# Altium footprint library LAY_90818_C172.PcbLib: 60 footprints (part 4 of 5)
Each footprint in its own frame and in the unit in brackets; x right, y up, seen from the top. Pads: shape width x height; smd on the part's side, far side on the other; paste and mask are expansions set on the pad; w line width, h text height; cw(c..) or ccw(c..) is an arc to the next point about the centre after c.
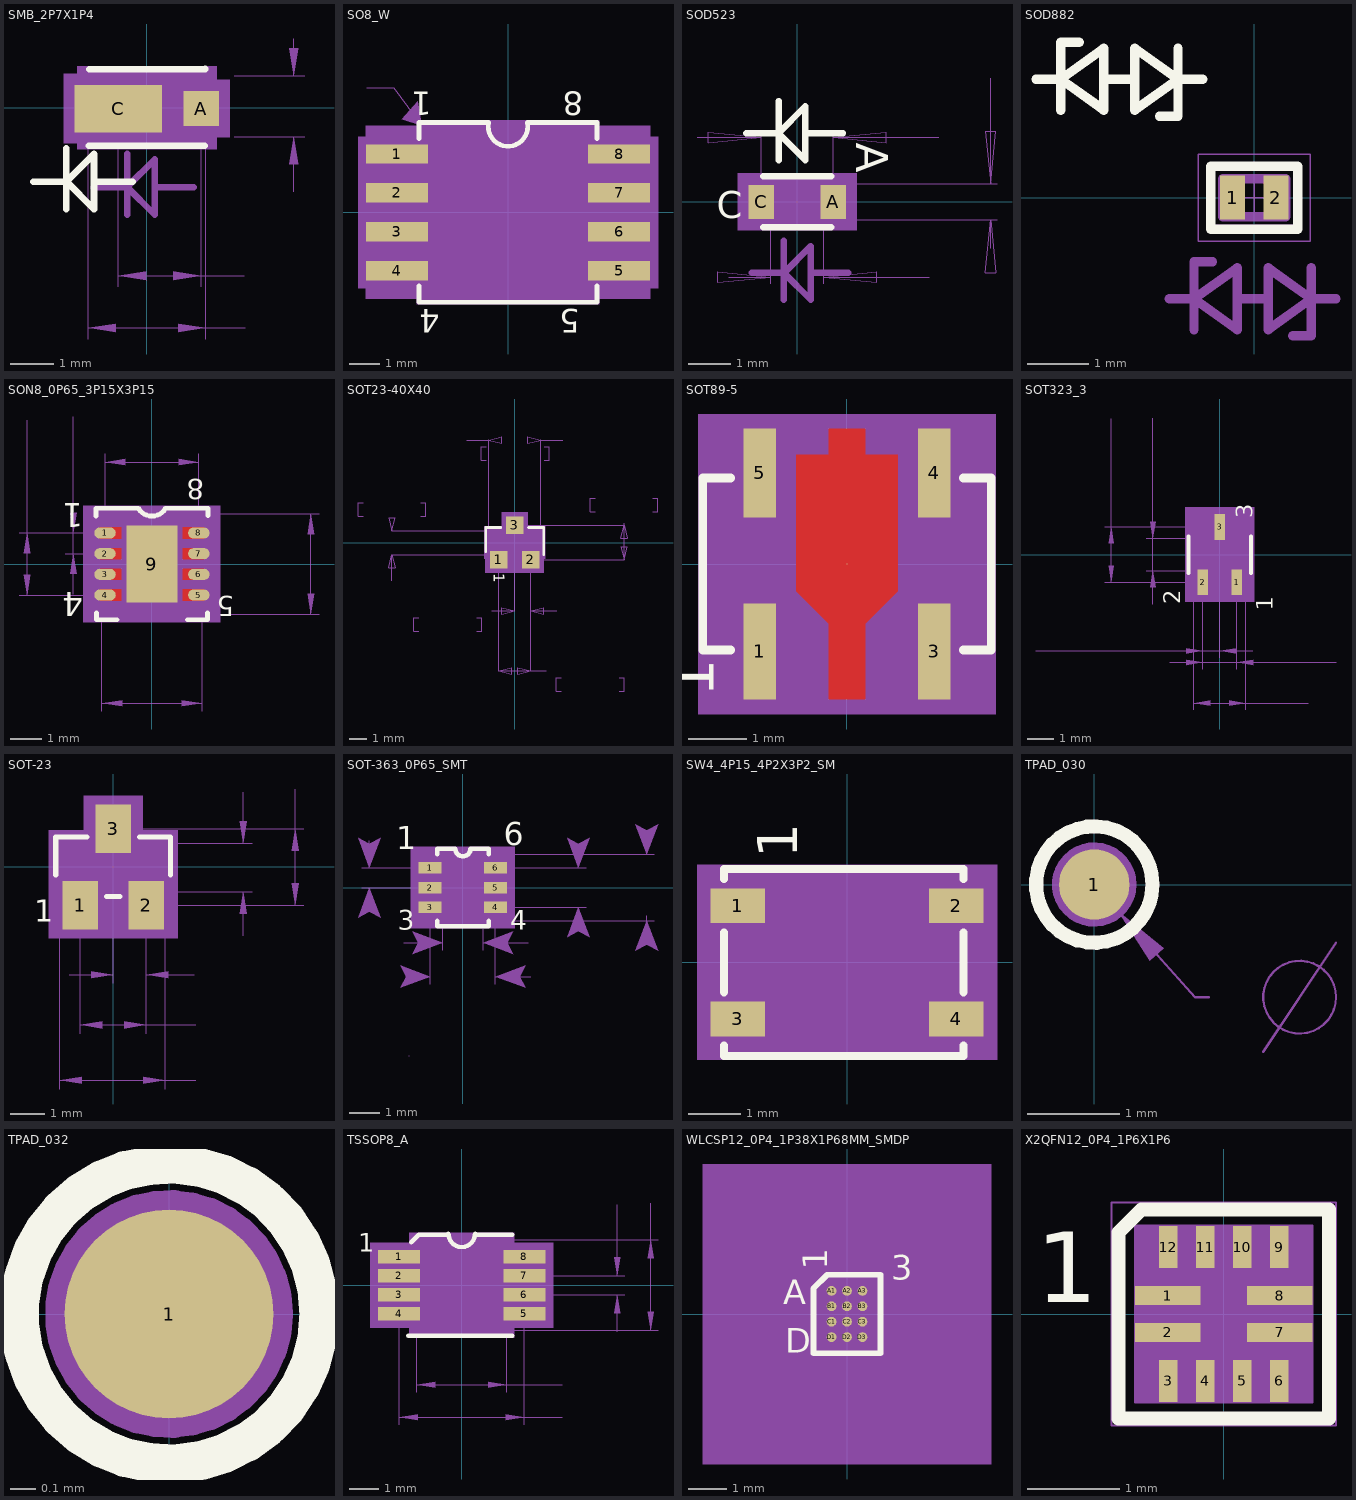
[diagram p3: the footprints below, top view; thin cyan lines are the x and y axes]

## SMB_2P7X1P4 [mil] "SMB_2P7X1P4"
pads (2):
  rect 32x32 smd: A(49.15,-0.59)
  rect 79x43 smd: C(-25.65,-0.59)
Top Overlay:
  lines w6: -102.73,-66.68 -72.73,-66.68 ; -72.73,-91.68 -72.73,-36.68 ; -52.19,-34.41 52.62,-34.41 52.62,-34.17 ; -51.75,35.04 53.05,35.04 53.05,35.28 ; -47.73,-66.68 -12.73,-66.68 ; -72.73,-66.68 -47.73,-91.68 -47.73,-41.68 -72.73,-66.68
  text ".Designator" at 59.94,74.41 h30
Top Courtyard:
  dashed: -65.18,-22.16 -52.85,-22.16 -52.85,-27.56 53.45,-27.56 53.45,-16.61 65.18,-16.61 65.18,15.43 53.45,15.43 53.45,27.56 -52.85,27.56 -52.85,20.98 -65.18,20.98
Top 3D Body:
  region: -65.18,-22.16 -52.85,-22.16 -52.85,-27.56 53.45,-27.56 53.45,-16.61 65.18,-16.61 65.18,15.43 53.45,15.43 53.45,27.56 -52.85,27.56 -52.85,20.98 -65.18,20.98
Top Component Center:
  lines w1: -10.06,-0.59 9.94,-0.59 ; -0.06,-10.59 -0.06,9.41
Mechanical 31:
  dashed: -75.18,30.98 -62.85,30.98 -62.85,37.56 63.45,37.56 63.45,25.43 75.18,25.43 75.18,-26.61 63.45,-26.61 63.45,-37.56 -62.85,-37.56 -62.85,-32.16 -75.18,-32.16
Mechanical34:
  text "A" at 53.15,-0.59 h10
  text "C" at -21.65,-0.59 h10
Mechanical35:
  dashed: 24.15,-155.85 49.15,-151.85 24.15,-147.85
  dashed: -0.65,-147.85 -25.65,-151.85 -0.65,-155.85
  dashed: 128.98,54.06 132.97,29.06 136.97,54.06
  dashed: 136.97,-51.06 132.97,-26.06 128.98,-51.06
  dashed: 28.45,-203.05 53.45,-199.06 28.45,-195.06
  dashed: -27.85,-195.06 -52.85,-199.06 -27.85,-203.05
  lines w1: -52.85,-209.06 -52.85,-37.56 ; -52.85,-199.06 53.45,-199.06 89.1,-199.06 ; -25.65,-161.85 -25.65,-10.59 ; -25.65,-151.85 49.15,-151.85 88,-151.85 ; 49.15,-161.85 49.15,-10.59 ; 53.45,-209.06 53.45,-37.56 ; 79.03,-26.06 142.97,-26.06 ; 79.03,29.06 142.97,29.06 ; 132.97,-76.06 132.97,-26.06 ; 132.97,29.06 132.97,62.31
  text "ALL DIMS IN MM" at -147.16,-255.79 h25
  text "R079X043S" at 24.84,-298.09 h25
  text "S032S" at 23.54,-336.99 h25
  text "PAD C" at -149.16,-294.69 h25
  text "PAD A" at -149.16,-334.49 h25
  text "SMB_2P7X1P4" at -158.46,105.31 h25
  text "1.9" at 114.24,-167.39 h25
  text "1.4" at 179.44,-41.19 h25
  text "2.7" at 115.34,-214.59 h25
Top Assembly:
  lines w6: -47.73,-71.68 -17.73,-71.68 ; -17.73,-96.68 -17.73,-41.68 ; 7.27,-71.68 42.27,-71.68 ; -17.73,-71.68 7.27,-96.68 7.27,-46.68 -17.73,-71.68 ; -52.85,-27.56 53.45,-27.56 53.45,27.56 -52.85,27.56 -52.85,-27.56
3D body: height 150, standoff 0, extent -65.18,-27.56 65.18,27.56

## SO8_W [mil] "SO8_W"
pads (8):
  rect 80x25 smd: 1(-143,75) 2(-143,25) 3(-143,-25) 4(-143,-75) 5(143,-75) 6(143,-25) 7(143,25) 8(143,75)
Top Overlay:
  lines w6: -114.5,-94.5 -114.5,-115.5 114.5,-115.5 114.5,-94.5 ; -114.5,94.5 -114.5,115.5 -25,115.5 ; -25,115 ccw(c0,110.42) 25,115 ; 25,115.5 114.5,115.5 114.5,94.5
  text ".Designator" at 34,155 h30
  text "1" at -98,155 h30
  text "4" at -88,-125 h30
  text "8" at 97,155 h30
  text "5" at 92,-125 h30
Top Courtyard:
  dashed: -183,-111.5 183,-111.5 183,111.5 -183,111.5
Top 3D Body:
  region: -183,-111.5 183,-111.5 183,111.5 -183,111.5
Top Component Center:
  lines w1: -10,0 10,0 ; 0,-10 0,10
Mechanical 31:
  dashed: -117.5,-118.5 -117.5,-97.5 -193,-97.5 -193,97.5 -117.5,97.5 -117.5,118.5 117.5,118.5 117.5,97.5 193,97.5 193,-97.5 117.5,-97.5 117.5,-118.5
Mechanical34:
  text "8" at 147,75 h10
  text "1" at -139,75 h10
  text "6" at 147,-25 h10
  text "7" at 147,25 h10
  text "3" at -139,-25 h10
  text "2" at -139,25 h10
  text "5" at 147,-75 h10
  text "4" at -139,-75 h10
Mechanical35:
  text "PADS R080X025S" at -192,-471.34 h25
  text "SO8_W" at -59,223.5 h25
  text "ALL DIMS IN MM" at -194,-331.34 h25
  text "(DIMS. FOR REF. ONLY)" at -257.5,-399.84 h25
  text "(ALL PADS ROUNDED TO MILS)" at -288,-529.84 h25
Top Assembly:
  lines w6: -107.5,-108 ccw(c-107,-108) -107,-108.5 107,-108.5 ccw(c107,-108) 107.5,-108 107.5,108 ccw(c107,108) 107,108.5 25,108.5 cw(c0,110.05) -25,108.5 -107,108.5 ccw(c-107,108) -107.5,108 -107.5,-108
  text "1" at -204,67.5 h25
  text "4" at -204,-85.5 h25
  text "8" at 211,74 h25
  text "5" at 217,-78 h25
Mechanical41:
  dashed: -111,111.5 -136.5,119.5 -116,143
  lines w1: -181.5,160 -147,160 -111,111.5 ; -25,108.25 ccw(c0,109.8) 25,108.25 ; -25,108.5 -107,108.5 ccw(c-107,108) -107.5,108 -107.5,-108 ccw(c-107,-108) -107,-108.5 107,-108.5 ccw(c107,-108) 107.5,-108 107.5,108 ccw(c107,108) 107,108.5 25,108.5
  text "PADS R080X025S" at -192,-470.5 h25
  text "ALL DIMS IN MM" at -194,-331.5 h25
  text "SO8_W" at -59,223.5 h25
  text "(ALL PADS ROUNDED TO MILS)" at -288.5,-530 h25
  text "(DIMS. FOR REF. ONLY)" at -257.5,-399 h25
  text "4" at -204,-85.34 h25
  text "1" at -204,67.67 h25
  text "8" at 211,74.17 h25
  text "5" at 217,-77.84 h25
  text "PACKAGE OUTLINE" at -610,144.17 h25
3D body: height 150, standoff 0, extent -183,-111.5 183,111.5

## SOD523 [mil] "SOD523"
pads (2):
  rect 24x32 smd: A(33.46,-0.2) C(-33.46,-0.2)
Top Overlay:
  lines w6: -47.39,63.75 -17.39,63.75 ; -31.61,-23.93 31.61,-23.93 ; -31.61,23.55 31.61,23.55 ; -17.39,38.75 -17.39,93.75 ; 7.61,63.75 42.61,63.75 ; -17.39,63.75 7.61,38.75 7.61,88.75 -17.39,63.75
  text ".Designator" at 105,19.8 h30
  text "C" at -75,-15.2 h25
  text "A" at 55,54.8 h30
Top Courtyard:
  dashed: -45.46,-16.73 -45.46,16.73 45.46,16.73 45.46,-16.73
Top 3D Body:
  region: -45.46,-16.73 45.46,-16.73 45.46,16.73 -45.46,16.73
Top Component Center:
  lines w1: -10,-0.2 10,-0.2 ; 0,-10.2 0,9.8
Mechanical 31:
  dashed: -55.46,-26.73 55.46,-26.73 55.46,26.73 -55.46,26.73
Mechanical34:
  text "C" at -33.46,3.81 h10
  text "A" at 33.46,3.81 h10
Mechanical35:
  lines w1: -93.25,59.8 -33.46,59.8 ; -63.75,-70.19 -24.61,-70.19 ; -33.46,5.71 -33.46,65.71 ; -24.61,-76.1 -24.61,-22.82 ; 24.61,-76.1 24.61,-22.82 ; 30.51,-16.92 185.9,-16.92 ; 30.51,16.53 185.9,16.53 ; 33.46,5.71 33.46,65.71 ; 123.03,-70.19 24.61,-70.19 ; 131.89,59.8 33.46,59.8 ; 180,-43.45 180,-16.92 ; 180,114.97 180,16.53 ; -33.46,59.8 -82.68,54.88 -82.68,64.73 -33.46,59.8 ; -24.61,-70.19 -73.82,-75.12 -73.82,-65.27 -24.61,-70.19 ; 24.61,-70.19 73.82,-65.27 73.82,-75.12 24.61,-70.19 ; 33.46,59.8 82.68,64.73 82.68,54.88 33.46,59.8 ; 180,-16.92 184.92,-66.14 175.08,-66.14 180,-16.92 ; 180,16.53 175.08,65.75 184.92,65.75 180,16.53
  text "SOD523" at -95.81,202.06 h25
  text "PAD R032X024S" at -197.31,154.82 h25
  text "ALL DIMENSIONS IN MM" at -250,-160.19 h25
  text "1.7" at -200.5,44.3 h25
  text "0.85" at 215,-10.53 h25
  text "1.25" at -200,-85.69 h25
Top Assembly:
  lines w6: -42.39,-66.25 -12.39,-66.25 ; -12.39,-91.25 -12.39,-36.25 ; -11.81,-19.88 -11.81,15.55 ; 12.61,-66.25 47.61,-66.25 ; -12.39,-66.25 12.61,-91.25 12.61,-41.25 -12.39,-66.25 ; -24.61,-16.92 -24.61,16.53 24.61,16.53 24.61,-16.92 -24.61,-16.92
  text "A" at 59.33,-12.09 h25
  text "C" at -72.36,-15.99 h25
3D body: height 150, standoff 0, extent -45.46,-16.73 45.46,16.73

## SOD882 [mil] "SOD882"
pads (2):
  rect 16x28 smd: 1(-13.78,0) 2(13.78,0)
Top Overlay:
  lines w6: -139.18,75.55 -123.43,75.55 ; -123.43,55.86 -123.43,99.17 -111.62,99.17 ; -95.87,75.55 -76.19,75.55 ; -60.44,51.92 -48.63,51.92 -48.63,95.23 ; -32.88,75.55 -48.63,75.55 ; -123.43,75.55 -95.87,95.23 -95.87,55.86 -123.43,75.55 ; -76.19,75.55 -76.19,95.23 -48.63,75.55 ; -76.19,75.55 -76.19,55.86 -48.63,75.55 ; -27.78,-20 -27.78,20 27.78,20 27.78,-20 -27.78,-20
Top Courtyard:
  lines w1: -25.59,-17.72 25.59,-17.72 25.59,17.72 -25.59,17.72 -25.59,-17.72
Top 3D Body:
  lines w1: -25.59,-17.72 25.59,-17.72 25.59,17.72 -25.59,17.72 -25.59,-17.72
Top Component Center:
  lines w1: -10,0 10,0 ; 0,-10 0,10
Mechanical 31:
  lines w1: -35.59,-27.72 35.59,-27.72 35.59,27.72 -35.59,27.72 -35.59,-27.72
Mechanical34:
  text "2" at 9.78,0 h10
  text "1" at -17.78,0 h10
Mechanical35:
  text "SOD882" at -66.25,116.94 h31
  text "ALL DIMS ARE IN MM" at -228.5,-157.42 h31
  text "PADS R016X028S_SP012X024" at -316.75,-204.66 h31
Top Assembly:
  lines w6: -54.18,-64.45 -38.43,-64.45 ; -38.43,-84.14 -38.43,-40.83 -26.62,-40.83 ; -10.87,-64.45 8.81,-64.45 ; 24.56,-88.08 36.37,-88.08 36.37,-44.77 ; 52.12,-64.45 36.37,-64.45 ; -38.43,-64.45 -10.87,-44.77 -10.87,-84.14 -38.43,-64.45 ; 8.81,-64.45 8.81,-84.14 36.37,-64.45 ; 8.81,-64.45 8.81,-44.77 36.37,-64.45 ; -20.08,-12.21 -20.08,12.21 20.08,12.21 20.08,-12.21 -20.08,-12.21
  text ".Designator" at -19,-8.34 h25

## SON8_0P65_3P15X3P15 [mm] "SON8_0P65_3P15X3P15"
pads (9):
  oval 0.675x0.35 smd: 1(-1.475,0.975) 2(-1.475,0.325) 3(-1.475,-0.325) 4(-1.475,-0.975) 5(1.475,-0.975) 6(1.475,-0.325) 7(1.475,0.325) 8(1.475,0.975)
  rect 1.6x2.413 smd: 9(0,0)
Top Layer:
  region: 0.962,1.15 1.637,1.15 1.637,0.8 0.962,0.8
  region: 0.962,0.5 1.637,0.5 1.637,0.15 0.962,0.15
  region: 0.962,-0.15 1.637,-0.15 1.637,-0.5 0.962,-0.5
  region: 0.962,-0.8 1.637,-0.8 1.637,-1.15 0.962,-1.15
  region: -0.962,0.8 -1.637,0.8 -1.637,1.15 -0.962,1.15
  region: -0.962,0.15 -1.637,0.15 -1.637,0.5 -0.962,0.5
  region: -0.962,-0.5 -1.637,-0.5 -1.637,-0.15 -0.962,-0.15
  region: -0.962,-1.15 -1.637,-1.15 -1.637,-0.8 -0.962,-0.8
Top Overlay:
  lines w0.152: -1.754,1.505 -1.754,1.753 -0.431,1.753 ccw(c0,2.007) 0.431,1.753 1.767,1.753 1.767,1.522 ; -1.748,-1.53 -1.748,-1.754 -1.095,-1.754 ; 1.115,-1.754 1.742,-1.754 1.742,-1.537
  text ".Designator" at -2.921,0.635 h0.76
  text "1" at -2.159,1.905 h0.76
  text "5" at 2.591,-1.016 h0.64
  text "4" at -2.159,-0.889 h0.76
  text "8" at 1.651,2.667 h0.64
Top Paste:
  region: 1,1.125 1.65,1.125 1.65,0.825 1,0.825
  region: 1,0.475 1.65,0.475 1.65,0.175 1,0.175
  region: 1,-0.175 1.65,-0.175 1.65,-0.475 1,-0.475
  region: 1,-0.825 1.65,-0.825 1.65,-1.125 1,-1.125
  region: -1,0.825 -1.65,0.825 -1.65,1.125 -1,1.125
  region: -1,0.175 -1.65,0.175 -1.65,0.475 -1,0.475
  region: -1,-0.475 -1.65,-0.475 -1.65,-0.175 -1,-0.175
  region: -1,-1.125 -1.65,-1.125 -1.65,-0.825 -1,-0.825
  dashed: 0.125,0.125 0.775,0.125 0.775,1.125 0.125,1.125
  dashed: -0.775,0.125 -0.125,0.125 -0.125,1.125 -0.775,1.125
  dashed: -0.775,-1.125 -0.125,-1.125 -0.125,-0.125 -0.775,-0.125
  dashed: 0.125,-1.125 0.775,-1.125 0.775,-0.125 0.125,-0.125
Top Solder:
  region: 0.886,1.201 1.612,1.201 1.612,0.749 0.886,0.749
  region: 0.886,0.551 1.612,0.551 1.612,0.099 0.886,0.099
  region: 0.886,-0.099 1.612,-0.099 1.612,-0.551 0.886,-0.551
  region: 0.886,-0.749 1.612,-0.749 1.612,-1.201 0.886,-1.201
  region: -0.886,0.749 -1.612,0.749 -1.612,1.201 -0.886,1.201
  region: -0.886,0.099 -1.612,0.099 -1.612,0.551 -0.886,0.551
  region: -0.886,-0.551 -1.612,-0.551 -1.612,-0.099 -0.886,-0.099
  region: -0.886,-1.201 -1.612,-1.201 -1.612,-0.749 -0.886,-0.749
Top Courtyard:
  dashed: -1.9,-1.575 1.9,-1.575 1.9,1.575 -1.9,1.575
Top 3D Body:
  region: -1.9,-1.575 1.9,-1.575 1.9,1.575 -1.9,1.575
Top Component Center:
  lines w0.025: -0.254,0 0.254,0 ; 0,-0.254 0,0.254
Mechanical 31:
  dashed: -2.154,-1.829 2.154,-1.829 2.154,1.829 -2.154,1.829
Mechanical34:
  text "3" at -1.367,-0.44 h0.25
  text "5" at 1.598,-1.098 h0.25
  text "8" at 1.576,0.858 h0.25
  text "6" at 1.585,-0.442 h0.25
  text "7" at 1.584,0.189 h0.25
  text "1" at -1.376,0.859 h0.25
  text "4" at -1.385,-1.058 h0.25
  text "9" at 0.102,0 h0.25
  text "2" at -1.359,0.223 h0.25
Mechanical35:
  dashed: 0.84,3.103 1.475,3.205 0.84,3.306
  dashed: -0.84,3.306 -1.475,3.205 -0.84,3.103
  dashed: 0.94,-4.479 1.575,-4.377 0.94,-4.276
  dashed: -0.94,-4.276 -1.575,-4.377 -0.94,-4.479
  dashed: 5.099,0.94 4.998,1.575 4.896,0.94
  dashed: 4.896,-0.94 4.998,-1.575 5.099,-0.94
  dashed: -2.569,1.61 -2.468,0.975 -2.366,1.61
  dashed: -2.366,-0.31 -2.468,0.325 -2.569,-0.31
  dashed: -3.825,0.34 -3.926,0.975 -4.028,0.34
  dashed: -4.028,-0.34 -3.926,-0.975 -3.825,-0.34
  lines w0.025: -4.18,-0.975 -1.729,-0.975 ; -4.18,0.975 -1.729,0.975 -2.722,0.975 ; -3.926,4.527 -3.926,0.975 ; -2.722,0.325 -1.729,0.325 ; -2.468,-0.945 -2.468,0.325 -2.468,0.975 -2.468,4.632 ; -1.575,-4.631 -1.575,-1.829 ; -1.475,1.254 -1.475,3.459 ; -1.475,3.205 0.131,3.205 1.475,3.205 ; 1.475,1.254 1.475,3.459 ; 1.575,-4.631 1.575,-1.829 ; 1.829,-1.575 5.252,-1.575 ; 1.829,1.575 5.252,1.575 ; -3.926,0.975 -3.926,-0.975 -3.926,0.975 ; -1.575,-4.377 1.575,-4.377 -1.575,-4.377 ; 4.998,-1.575 4.998,1.575 4.998,-1.575
  text "ALL DIMS. IN MM" at -5.313,-6.128 h0.79
  text "PADS 1-8 SH_R034X014S" at -7.915,-7.529 h0.79
  text "PAD 9 R063X095SXP" at -5.719,-8.995 h0.79
  text "SON8_0P65_3P15X3P15" at -7.26,5.281 h0.79
  text "2.95" at -1.266,3.675 h0.79
  text "3.15" at -1.339,-4.065 h0.79
  text "3.15" at 4.669,-1.304 h0.79
  text "0.65" at -2.938,1.171 h0.79
  text "1.95" at -4.396,1.067 h0.79
Top Assembly:
  lines w0.152: -1.575,-1.575 1.575,-1.575 1.575,1.575 0.431,1.575 cw(c0,1.829) -0.431,1.575 -1.575,1.575 -1.575,-1.575
  text "1" at -2.289,1.957 h0.64
  text "5" at 1.967,-2.153 h0.64
  text "4" at -2.339,-2.25 h0.64
  text "8" at 1.937,1.878 h0.64
3D body: height 3.81, standoff 0, extent -1.9,-1.575 1.9,1.575

## SOT23-40X40 [mil] "SOT23-40X40"
pads (3):
  rect 40x40 smd: 1(-36.96,-39.5) 2(37.04,-39.5) 3(0.04,39.5)
Top Overlay:
  lines w6: -66.96,-20.5 -66.96,34.5 -32.12,34.5 ; 31.65,34.5 67.04,34.5 67.04,-27.4
  text "1" at -47.96,-70 h25
Top Courtyard:
  dashed: -57.16,-59.49 -57.16,-27.48 -60.08,-27.48 -60.08,27.52 -19.96,27.52 -19.96,59.49 19.96,59.49 19.96,27.48 60.08,27.48 60.08,-27.36 57.01,-27.36 57.01,-59.49
Top 3D Body:
  region: -57.16,-59.49 -57.16,-27.48 -60.08,-27.48 -60.08,27.52 -19.96,27.52 -19.96,59.49 19.96,59.49 19.96,27.48 60.08,27.48 60.08,-27.36 57.01,-27.36 57.01,-59.49
Top Component Center:
  lines w1: -9.96,0 10.04,0 ; 0.04,-10 0.04,10
Mechanical34:
  text "2" at 37.04,-43.5 h10
  text "3" at 0.04,35.5 h10
  text "1" at -36.96,-43.5 h10
Mechanical38:
  lines w1: -348.46,60.5 -359.96,60.5 -359.96,91.5 -348.46,91.5 ; -282.96,-27.5 -46.96,-27.5 ; -282.96,27.5 -60.96,27.5 ; -281.96,-87.5 -281.96,-27.5 ; -281.96,34.25 -281.96,27.5 ; -220.46,-203.5 -231.96,-203.5 -231.96,-172.5 -220.46,-172.5 ; -215.46,60.5 -203.96,60.5 -203.96,91.5 -215.46,91.5 ; -110.21,235 -59.96,235 ; -87.46,-203.5 -75.96,-203.5 -75.96,-172.5 -87.46,-172.5 ; -64.96,188.5 -76.46,188.5 -76.46,219.5 -64.96,219.5 ; -59.96,28.5 -59.96,236 ; -52.71,-157 0.04,-157 ; -36.96,-295.5 -36.96,-40.5 ; 0.04,-158 0.04,38.5 ; 1.04,39.5 252.04,39.5 ; 37.04,-295.5 37.04,-40.5 37.04,-158 ; 38.04,-39.5 252.04,-39.5 ; 60.04,28.5 60.04,236 ; 68.04,188.5 79.54,188.5 79.54,219.5 68.04,219.5 ; 72.29,-294.5 37.04,-294.5 ; 97.04,-157 37.04,-157 ; 107.04,-341 95.54,-341 95.54,-310 107.04,-310 ; 110.29,235 60.04,235 ; 184.54,70.5 173.04,70.5 173.04,101.5 184.54,101.5 ; 240.04,-341 251.54,-341 251.54,-310 240.04,-310 ; 251.04,44.25 251.04,39.5 ; 317.54,70.5 329.04,70.5 329.04,101.5 317.54,101.5 ; -281.96,-27.5 -274.46,-57.5 -289.46,-57.5 -281.96,-27.5 ; -281.96,27.5 -289.46,57.5 -274.46,57.5 -281.96,27.5 ; -59.96,235 -29.96,242.5 -29.96,227.5 -59.96,235 ; -36.96,-294.5 37.04,-294.5 ; -36.96,-294.5 -6.96,-287 -6.96,-302 -36.96,-294.5 ; 0.04,-157 -29.96,-164.5 -29.96,-149.5 0.04,-157 ; 37.04,-294.5 7.04,-302 7.04,-287 37.04,-294.5 ; 37.04,-157 67.04,-149.5 67.04,-164.5 37.04,-157 ; 60.04,235 30.04,227.5 30.04,242.5 60.04,235 ; 251.04,-39.5 251.04,39.5 ; 251.04,-39.5 243.54,-9.5 258.54,-9.5 251.04,-39.5 ; 251.04,39.5 258.54,9.5 243.54,9.5 251.04,39.5
  text "PAD 1-3 S040S" at -199.96,-421 h31
  text "ALL DIMS IN MILS[MM]" at -225.96,-466.34 h31
  text "SOT23-40x40" at -129.96,330.67 h31
  text "74.00" at 102.54,-279 h31
  text "1.88" at 118.54,-341 h31
  text "37.00" at -224.96,-141.5 h31
  text "0.94" at -208.96,-203.5 h31
  text "79.00" at 180.04,132.5 h31
  text "2.01" at 196.04,70.5 h31
  text "120.00" at -83.96,250.5 h31
  text "3.05" at -53.46,188.5 h31
  text "55.00" at -352.96,122.5 h31
  text "1.40" at -336.96,60.5 h31
Top Assembly:
  lines w6: -59.96,-13.5 -45.96,-27.5 60.04,-27.5 60.04,27.5 -59.96,27.5 -59.96,-13.5
  text ".Designator" at -52.96,-8.33 h25
  text "1" at -46.96,-104.34 h25
Mechanical40:
  dashed: -67.17,-69.49 -67.17,-37.48 -70.08,-37.48 -70.08,37.52 -29.96,37.52 -29.96,69.49 29.96,69.49 29.96,37.48 70.08,37.48 70.08,-37.36 67.01,-37.36 67.01,-69.49
3D body: height 150, standoff 0, extent -60.08,-59.49 60.08,59.49

## SOT89-5 [mil] "SOT89-5"
pads (5):
  rect 22x65 smd: 1(-59.1,-59.1) 3(59.1,-59.1)
  oct 1x1 smd: 2(0,0)
  rect 22x60 smd: 4(59.1,61.6) 5(-59.1,61.6)
Top Layer:
  region: 34.4,-18.3 34.4,73.8 12.2,73.8 12.2,91.5 -12.2,91.5 -12.2,73.8 -34.4,73.8 -34.4,-18.3 -12.2,-40.4 -12.2,-91.5 12.2,-91.5 12.2,-40.4
  region: 34.4,-18.3 34.4,73.8 12.2,73.8 12.2,91.5 -12.2,91.5 -12.2,73.8 -34.4,73.8 -34.4,-18.3 -12.2,-40.4 -12.2,-91.5 12.2,-91.5 12.2,-40.4
Top Overlay:
  lines w6: -78.7,-58.2 -97.6,-58.2 -97.6,58.2 -78.7,58.2 ; 78.7,-58.2 97.6,-58.2 97.6,58.2 78.7,58.2
  text ".Designator" at -110,-20 h30
  text "1" at -90,-90 h30
Top Paste:
  dashed: -12.2,-91.5 -12.2,-40.4 -34.4,-18.3 -34.4,-15.7 34.4,-15.7 34.4,-18.3 12.2,-40.4 12.2,-91.5
  dashed: -34.4,-7.9 -34.4,51.2 34.4,51.2 34.4,-7.9
  dashed: -34.4,73.8 -12.2,73.8 -12.2,91.5 12.2,91.5 12.2,73.8 34.4,73.8 34.4,59.1 -34.4,59.1
Top Solder:
  region: 36.4,-20.3 36.4,75.8 14.2,75.8 14.2,93.5 -14.2,93.5 -14.2,75.8 -36.4,75.8 -36.4,-20.3 -14.2,-42.3 -14.2,-93.5 14.2,-93.5 14.2,-42.3
  region: 36.4,-20.3 36.4,75.8 14.2,75.8 14.2,93.5 -14.2,93.5 -14.2,75.8 -36.4,75.8 -36.4,-20.3 -14.2,-42.3 -14.2,-93.5 14.2,-93.5 14.2,-42.3
Top Courtyard:
  dashed: -90.6,-91.5 90.6,-91.5 90.6,91.5 -90.6,91.5
Top 3D Body:
  region: 90.6,91.5 90.6,-91.5 -90.6,-91.5 -90.6,91.5
Top Component Center:
  lines w1: -10,0 10,0 ; 0,-10 0,10
Mechanical 31:
  dashed: -100.6,-101.5 100.6,-101.5 100.6,101.5 -100.6,101.5
Mechanical34:
  text "4" at 59.1,57.6 h10
  text "1" at -59.1,-63.1 h10
  text "5" at -59.1,57.6 h10
  text "3" at 59.1,-63.1 h10
  text "2" at 0,-4 h10
Mechanical35:
  text "PADS 1,3 R022X065S" at -244.1,-244.1 h25
  text "PAD 2 SH_R069X183SXP" at -244.1,-291.3 h25
  text "PADS 4,5 R022X060S" at -244.1,-338.6 h25
  text "ALL DIMS IN MM." at -244.1,-385.8 h25
  text "SOT89-5" at -102.4,118.1 h25
Top Assembly:
  lines w6: -90.6,-51.2 90.6,-51.2 90.6,51.2 -90.6,51.2 -90.6,-51.2
  text "1" at -102.4,-94.5 h25
3D body: height 150, standoff 0, extent -90.6,-91.5 90.6,91.5

## SOT323_3 [mil] "SOT323_3"
pads (3):
  rect 16x39 smd: 1(25.59,-41.73) 2(-25.59,-41.73) 3(0,41.73)
Top Overlay:
  lines w5.98: -47.24,-27.56 -47.24,27.56 ; 47.24,-27.56 47.24,27.56
  text ".Designator" at 95,-55 h30
  text "3" at 50,55 h25
  text "2" at -60,-75 h25
  text "1" at 80,-85 h25
Top Courtyard:
  dashed: -33.58,-61.24 -33.58,-61.02 -41.89,-61.02 -41.89,61.02 -7.99,61.02 -7.99,61.24 7.99,61.24 7.99,61.02 41.89,61.02 41.89,-61.02 33.58,-61.02 33.58,-61.24
Top 3D Body:
  region: -33.58,-61.24 -33.58,-61.02 -41.89,-61.02 -41.89,61.02 -7.99,61.02 -7.99,61.24 7.99,61.24 7.99,61.02 41.89,61.02 41.89,-61.02 33.58,-61.02 33.58,-61.24
Top Component Center:
  lines w1: -10,0 10,0 ; 0,-10 0,10
Mechanical 31:
  dashed: 43.58,-71.24 -43.58,-71.24 -43.58,-71.02 -51.89,-71.02 -51.89,71.02 -17.99,71.02 -17.99,71.24 17.99,71.24 17.99,71.02 51.89,71.02 51.89,-71.02 43.58,-71.02
Mechanical34:
  text "3" at 0,37.73 h10
  text "2" at -25.59,-45.73 h10
  text "1" at 25.59,-45.73 h10
Mechanical35:
  dashed: 50.59,-158.82 25.59,-162.8 50.59,-166.77
  dashed: -50.59,-166.77 -25.59,-162.8 -50.59,-158.82
  dashed: 14.37,-228.11 39.37,-224.13 14.37,-220.16
  dashed: -14.37,-220.16 -39.37,-224.13 -14.37,-228.11
  dashed: 25,-141.38 0,-145.35 25,-149.33
  dashed: -50.59,-149.33 -25.59,-145.35 -50.59,-141.38
  dashed: -104.88,49.61 -100.91,24.61 -96.93,49.61
  dashed: -96.93,-49.61 -100.91,-24.61 -104.88,-49.61
  dashed: -159.88,16.73 -163.86,41.73 -167.83,16.73
  dashed: -167.83,-16.73 -163.86,-41.73 -159.88,-16.73
  lines w1: -277.28,-145.35 -25.59,-145.35 0,-145.35 50,-145.35 ; -173.86,-41.73 -35.59,-41.73 ; -173.86,41.73 -10,41.73 ; -163.86,204.57 -163.86,41.73 ; -110.91,-24.61 -49.37,-24.61 ; -110.91,24.61 -49.37,24.61 ; -100.91,-74.61 -100.91,-24.61 -100.91,24.61 -100.91,205.63 ; -75.59,-162.8 -25.59,-162.8 25.59,-162.8 175.28,-162.8 ; -39.37,-234.13 -39.37,-34.61 ; -25.59,-172.8 -25.59,-51.73 -25.59,-155.35 ; 0,-155.35 0,31.73 ; 25.59,-172.8 25.59,-51.73 ; 39.37,-234.13 39.37,-34.61 ; 133.58,-224.13 39.37,-224.13 ; -163.86,41.73 -163.86,-41.73 -163.86,41.73 ; 39.37,-224.13 -39.37,-224.13 39.37,-224.13
  text "ALL DIMS IN MM" at -198.27,-275.87 h25
  text "PADS R016X039S" at -204.25,219.17 h25
  text "SOT323_3" at -118.46,268.78 h25
  text "1.3" at 68.11,-144.33 h25
  text "2" at 84.37,-205.67 h25
  text "0.65" at -251.06,-126.89 h25
  text "1.25" at -119.37,69.49 h25
  text "2.12" at -182.32,68.43 h25
Top Assembly:
  lines w5.98: -39.37,-24.61 39.37,-24.61 39.37,24.61 -39.37,24.61 -39.37,-24.61
  text "3" at -1.61,77.28 h25
  text "2" at -65.83,-103.58 h25
  text "1" at 78.5,-107.01 h25
3D body: height 150, standoff 0, extent -41.89,-61.24 41.89,61.24

## SOT-23 [mil] "SOT-23"
pads (3):
  rect 40x55 smd: 1(-37.4,-43.3) 2(37.4,-43.3) 3(0,43.3)
Top Overlay:
  lines w6: -65,-9 -65,34 -30,34 ; -7.4,-33.5 7.4,-33.5 ; 30,34 65,34 65,-9
  text "1" at -89.58,-61.98 h25
Top Courtyard:
  dashed: -62.99,-70.87 62.99,-70.87 62.99,31.5 23.62,31.5 23.62,70.87 -23.62,70.87 -23.62,31.5 -62.99,31.5
Top 3D Body:
  region: -62.99,-70.87 62.99,-70.87 62.99,31.5 23.62,31.5 23.62,70.87 -23.62,70.87 -23.62,31.5 -62.99,31.5
Top Component Center:
  lines w1: -10,0 10,0 ; 0,-10 0,10
Mechanical 31:
  dashed: -72.99,-80.87 -72.99,41.5 -33.62,41.5 -33.62,80.87 33.62,80.87 33.62,41.5 72.99,41.5 72.99,-80.87
Mechanical34:
  text "1" at -41.4,-43.3 h10
  text "2" at 33.4,-43.3 h10
  text "3" at -4,43.3 h10
Mechanical35:
  dashed: 62.4,-118 37.4,-122 62.4,-126
  dashed: -25,-126 0,-122 -25,-118
  dashed: 12.4,-183 37.4,-179 12.4,-175
  dashed: -12.4,-175 -37.4,-179 -12.4,-183
  dashed: 210,18.3 206,43.3 202,18.3
  dashed: 202,-18.3 206,-43.3 210,-18.3
  dashed: 143.5,52 147.5,27 151.5,52
  dashed: 151.5,-53 147.5,-28 143.5,-53
  dashed: 34,-245.5 59,-241.5 34,-237.5
  dashed: -35.5,-237.5 -60.5,-241.5 -35.5,-245.5
  lines w1: -60.5,-251.5 -60.5,-23 ; -60.5,-241.5 59,-241.5 93.75,-241.5 ; -50,-122 0,-122 ; -37.4,-189 -37.4,-53.3 ; -37.4,-179 37.4,-179 93.25,-179 ; 0,-132 0,-10 ; 37.4,-189 37.4,-53.3 37.4,-132 ; 37.4,-122 91.75,-122 ; 47.4,-43.3 216,-43.3 ; 59,-251.5 59,-25 ; 69,-28 157.5,-28 ; 69,27 157.5,27 ; 147.5,-78 147.5,-28 ; 147.5,27 147.5,84.75 ; 158.5,43.3 10,43.3 216,43.3 ; 206,-43.3 206,43.3 206,88.25
  text "PADS 1-3 R040X055S" at -182.4,-337.72 h25
  text "SOT-23" at -78.8,236.4 h25
  text "ALL DIMS IN MM" at -145.78,-397.94 h25
  text "0.95" at 118,-137.5 h25
  text "1.90" at 119.5,-194.5 h25
  text "2.20" at 221.5,114.5 h25
  text "1.40" at 163,111 h25
  text "3.04" at 120,-257 h25
Top Assembly:
  lines w6: -59,-13.5 -45,-27.5 59,-27.5 59,27.5 -59,27.5 -59,-13.5
  text ".Designator" at -17.5,-11 h25
  text "1" at -89.58,-60.48 h25
3D body: height 150, standoff 0, extent -62.99,-70.87 62.99,70.87

## SOT-363_0P65_SMT [mil] "SOT-363_0P65_SMT"
pads (6):
  rect 30x15 smd: 1(-42.72,25.59) 2(-42.72,0) 3(-42.72,-25.59) 4(42.72,-25.59) 5(42.72,0) 6(42.72,25.59)
Top Overlay:
  lines w6: -33.58,-43.59 -33.58,-50.31 33.58,-50.31 33.58,-43.59 ; -33.58,43.59 -33.58,50.31 -9.84,50.31 ccw(c0,50.48) 9.84,50.31 ; 9.84,50.36 33.58,50.31 33.58,43.59
  text "1" at -87,50 h30
  text "4" at 62,-55 h25
  text "6" at 53,55 h30
  text "3" at -85,-55 h25
Top Courtyard:
  dashed: -57.72,-43.31 57.72,-43.31 57.72,43.31 -57.72,43.31
Top 3D Body:
  region: -57.72,-43.31 57.72,-43.31 57.72,43.31 -57.72,43.31
Top Component Center:
  lines w1: -10,0 10,0 ; 0,-10 0,10
Mechanical 31:
  dashed: -67.72,-53.31 67.72,-53.31 67.72,53.31 -67.72,53.31
Mechanical34:
  text "3" at -46.72,-25.59 h10
  text "1" at -46.72,25.59 h10
  text "6" at 38.72,25.59 h10
  text "4" at 38.72,-25.59 h10
  text "5" at 38.72,0 h10
  text "2" at -46.72,0 h10
Mechanical35:
  dashed: 65.94,-57.16 26.57,-71.93 65.94,-86.69 58.07,-71.93
  dashed: -65.94,-86.69 -26.57,-71.93 -65.94,-57.16 -58.07,-71.93
  dashed: 81.69,-101.22 42.32,-115.98 81.69,-130.74 73.82,-115.98
  dashed: -81.69,-130.74 -42.32,-115.98 -81.69,-101.22 -73.82,-115.98
  dashed: 135.69,64.96 150.45,25.59 165.21,64.96 150.45,57.09
  dashed: 165.21,-64.96 150.45,-25.59 135.69,-64.96 150.45,-57.09
  dashed: 224.76,82.68 239.53,43.31 254.29,82.68 239.53,74.8
  dashed: 254.29,-82.68 239.53,-43.31 224.76,-82.68 239.53,-74.8
  dashed: -136.73,64.96 -121.97,25.59 -107.2,64.96 -121.97,57.09
  dashed: -107.2,-39.37 -121.97,0 -136.73,-39.37 -121.97,-31.5
  lines w1: -131.97,0 -52.32,0 ; -131.97,25.59 -52.32,25.59 ; -121.97,-22.65 -121.97,0 ; -121.97,25.59 -121.97,60.85 ; -77.21,-71.93 -26.57,-71.93 ; -74.3,-115.98 -42.32,-115.98 ; -70.47,-219.2 -70.17,-219.2 ; -42.32,-125.98 -42.32,-35.59 ; -26.57,-81.93 -26.57,-53.31 ; 26.57,-81.93 26.57,-53.31 ; 26.57,-71.93 85.29,-71.93 ; 36.58,-43.31 249.53,-43.31 ; 36.58,43.31 249.53,43.31 ; 42.32,-125.98 42.32,-35.59 ; 42.32,-115.98 88.2,-115.98 ; 52.32,-25.59 160.45,-25.59 ; 103.76,25.59 52.32,25.59 160.45,25.59 ; 150.45,-34.64 150.45,-25.59 ; 150.45,25.59 150.45,48.85 ; 239.53,-43.31 239.53,-36.91 ; 239.53,43.31 239.53,46.59
  text "ALL DIMENSIONS ARE IN MM" at -248.07,-200.68 h31
  text "PAD 1-6  -R030X015S" at -116.6,-257.89 h31
  text "SOT-363_0P65_SMT" at -158.98,138.79 h31
  text "1.35" at -190.57,-86.47 h31
  text "2.17" at 89.33,-131.05 h31
  text "1.3" at 110.28,-9.37 h31
  text "2.2" at 258.35,-39.65 h31
  text "0.65" at -245.58,0.05 h31
Top Assembly:
  lines w6: -26.57,-43.31 26.57,-43.31 26.57,43.31 11.81,43.31 cw(c0,43.31) -11.81,43.31 -26.57,43.31 -26.57,-43.31
  text ".Designator" at -19,-8.34 h25
  text "1" at -79.41,34.91 h25
  text "4" at 65.54,-50.42 h25
  text "6" at 62.48,29.72 h25
  text "3" at -83.94,-49.6 h25
3D body: height 150, standoff 0, extent -57.72,-43.31 57.72,43.31

## SW4_4P15_4P2X3P2_SM [mil] "SW4_4P15_4P2X3P2_SM"
pads (4):
  rect 41x26 smd: 1(-81.69,42.32) 2(81.69,42.32) 3(-81.69,-42.32) 4(81.69,-42.32)
Top Overlay:
  lines w6: -92.04,-62.31 -92.04,-69.99 87.31,-69.99 87.31,-62.31 ; -92.04,-22.32 -92.04,22.32 ; -92.04,62.32 -92.04,70 87.31,70 87.31,62.32 ; 87.31,-22.32 87.31,22.32
  text ".Designator" at 22.64,-170 h30
  text "1" at -37.36,78 h30
Top Courtyard:
  dashed: -102.19,-62.99 102.19,-62.99 102.19,62.99 -102.19,62.99
Top 3D Body:
  region: -102.19,-62.99 102.19,-62.99 102.19,62.99 -102.19,62.99
Top Component Center:
  lines w1: -12.36,0 7.64,0 ; -2.36,-10 -2.36,10
Mechanical 31:
  dashed: -112.19,-72.99 112.19,-72.99 112.19,72.99 -112.19,72.99
Mechanical34:
  text "4" at 81.69,-46.32 h10
  text "3" at -81.69,-46.32 h10
  text "1" at -81.69,38.32 h10
  text "2" at 81.69,38.32 h10
Mechanical35:
  text "SW4_4P15_4P2X3P2_SM" at 51.69,-93.36 h31
  text "PADS  R041X026S" at -23.8,-473.96 h31
  text "ALL DIMS ARE IN MM" at -8.93,-562.22 h31
Top Assembly:
  lines w6: -85.04,-62.99 80.31,-62.99 80.31,62.99 -85.04,62.99 -85.04,-62.99
  text "1" at -123.97,24.07 h25
  text "3" at -126.35,-65.69 h25
  text "2" at 121.5,24.58 h25
  text "4" at 122.69,-59.74 h25
3D body: height 150, standoff 0, extent -102.19,-62.99 102.19,62.99

## TPAD_030 [mil] "TPAD_030"
pads (1):
  round 30 smd: 1(0,0)
Top Overlay:
  circle w6: c0,0 r24.82
Top Courtyard:
  dashed: 0,15.29 -5.85,14.13 -10.81,10.81 -14.13,5.85 -15.29,0 -14.13,-5.85 -13.02,-7.52 -10.81,-10.81 -5.85,-14.13 0,-15.29 5.85,-14.13 10.81,-10.81 13.02,-7.52 14.13,-5.85 15.29,0 14.13,5.85 10.81,10.81 5.85,14.13
Top 3D Body:
  region: 0,15.29 -5.85,14.13 -10.81,10.81 -14.13,5.85 -15.29,0 -14.13,-5.85 -13.02,-7.52 -10.81,-10.81 -5.85,-14.13 0,-15.29 5.85,-14.13 10.81,-10.81 13.02,-7.52 14.13,-5.85 15.29,0 14.13,5.85 10.81,10.81 5.85,14.13
Top Component Center:
  lines w1: -10,0 10,0 ; 0,-10 0,10
Mechanical34:
  text "1" at 0,-4 h10
Mechanical35:
  circle w1: c87.5,-48 r15.5
  dashed: 29.67,-27.12 10.01,-11.17 23.71,-32.46
  lines w1: 10.01,-11.17 43,-48 48.75,-48 ; 72,-71.25 103,-24.75
  text "PAD 1 C030SXP" at -179,112.5 h31
  text "TPAD_030" at -107.5,166.5 h31
  text "ALL DIMS IN MILS" at -214,-126.5 h31
  text "30" at 109,-63.5 h31
Top Assembly:
  circle w6: c0,0 r15
  text ".Designator" at -31.5,-10.5 h25
3D body: height 150, standoff 0, extent -15.29,-15.29 15.29,15.29

## TPAD_032 [mil] "TPAD_032"
pads (1):
  round 32 smd: 1(0,0)
Top Overlay:
  circle w6: c0,0 r23
Top Courtyard:
  dashed: 16.31,0 15.07,-6.24 11.54,-11.54 6.24,-15.07 0,-16.31 -6.24,-15.07 -8.02,-13.89 -11.54,-11.54 -15.07,-6.24 -16.31,0 -15.07,6.24 -11.54,11.54 -8.02,13.89 -6.24,15.07 0,16.31 6.24,15.07 11.54,11.54 15.07,6.24
Top 3D Body:
  region: 16.31,0 15.07,-6.24 11.54,-11.54 6.24,-15.07 0,-16.31 -6.24,-15.07 -8.02,-13.89 -11.54,-11.54 -15.07,-6.24 -16.31,0 -15.07,6.24 -11.54,11.54 -8.02,13.89 -6.24,15.07 0,16.31 6.24,15.07 11.54,11.54 15.07,6.24
Top Component Center:
  lines w1: -10,0 10,0 ; 0,-10 0,10
Mechanical34:
  text "1" at -4,0 h10
Mechanical38:
  text "PAD 1 C032SXP" at 179,-112.5 h31
  text "TPAD_032" at 107.5,-166.5 h31
  text "ALL DIMS IN MILS" at 214,126.5 h31
Top Assembly:
  circle w6: c0,0 r16
  text ".Designator" at 31.5,10.5 h25
3D body: height 150, standoff 0, extent -16.31,-16.31 16.31,16.31

## TSSOP8_A [mil] "TSSOP8_A"
pads (8):
  rect 57x18 smd: 1(-84.65,38.39) 2(-84.65,12.79) 3(-84.65,-12.79) 4(-84.65,-38.39) 5(84.65,-38.39) 6(84.65,-12.79) 7(84.65,12.79) 8(84.65,38.39)
Top Overlay:
  lines w6: -71.96,-68.02 68.02,-68.02 ; -18,69.5 ccw(c0,69.5) 18,69.5 ; -17.63,68.02 -58.02,68.02 -68.02,58.02 ; 17.63,68.02 68.02,68.02 ; -68.02,58.02 -68.02,58.02
  text "1" at -140,45 h25
  text ".Designator" at 70,-95 h25
Top Courtyard:
  dashed: -61.02,-61.02 -61.02,-47.39 -113.15,-47.39 -113.15,47.39 -61.02,47.39 -61.02,61.02 61.02,61.02 61.02,47.39 113.15,47.39 113.15,-47.39 61.02,-47.39 61.02,-61.02
Top 3D Body:
  region: -61.02,-61.02 -61.02,-47.39 -113.15,-47.39 -113.15,47.39 -61.02,47.39 -61.02,61.02 61.02,61.02 61.02,47.39 113.15,47.39 113.15,-47.39 61.02,-47.39 61.02,-61.02
Top Component Center:
  lines w1: -10,0 10,0 ; 0,-10 0,10
Mechanical 31:
  dashed: 71.02,-71.02 -71.02,-71.02 -71.02,-57.39 -123.15,-57.39 -123.15,57.39 -71.02,57.39 -71.02,71.02 71.02,71.02 71.02,57.39 123.15,57.39 123.15,-57.39 71.02,-57.39
Mechanical34:
  text "8" at 80.99,38.8 h10
  text "3" at -88.67,-12.91 h10
  text "2" at -88.96,12.36 h10
  text "1" at -89.53,39.09 h10
  text "4" at -89.25,-37.31 h10
  text "6" at 80.7,-12.04 h10
  text "7" at 80.7,13.24 h10
  text "5" at 81.28,-37.89 h10
Mechanical35:
  dashed: 36.02,-138.18 61.02,-134.18 36.02,-130.19
  dashed: -36.02,-130.19 -61.02,-134.18 -36.02,-138.18
  dashed: 59.65,-182.27 84.65,-178.28 59.65,-174.28
  dashed: -59.65,-174.28 -84.65,-178.28 -59.65,-182.27
  dashed: 258.83,36.02 254.84,61.02 250.84,36.02
  dashed: 250.84,-36.02 254.84,-61.02 258.83,-36.02
  dashed: 206.05,37.8 210.04,12.79 214.04,37.8
  dashed: 214.04,-37.8 210.04,-12.79 206.05,-37.8
  lines w1: -84.65,-188.28 -84.65,-48.39 ; -84.65,-178.28 84.65,-178.28 135.59,-178.28 ; -61.02,-144.18 -61.02,-71.02 ; -61.02,-134.18 61.02,-134.18 135.59,-134.18 ; 61.02,-144.18 61.02,-71.02 ; 71.02,-61.02 264.83,-61.02 ; 71.02,61.02 264.83,61.02 ; 84.65,-188.28 84.65,-48.39 ; 94.65,-12.79 220.04,-12.79 ; 94.65,12.79 220.04,12.79 ; 210.04,-62.8 210.04,-12.79 ; 210.04,12.79 210.04,108.62 ; 254.84,-61.02 254.84,61.02 254.84,110.52
  text "PADS R057X018S" at -182.56,-259.05 h31
  text "ALL DIMS ARE IN MM" at -255.27,-307.38 h31
  text "TSSOP8_A" at -108.01,188.22 h31
  text "3.1" at 161.84,-149.68 h31
  text "4.3" at 161.84,-193.78 h31
  text "3.1" at 270.33,136.77 h31
  text "0.65" at 225.54,134.87 h31
Top Assembly:
  lines w6: -25,62.5 ccw(c0,62.5) 25,62.5 ; -24.41,61.02 -51.02,61.02 -61.02,51.02 -61.02,-61.02 61.02,-61.02 61.02,61.02 24.41,61.02
  text "1" at -146.46,37.01 h25
3D body: height 150, standoff 0, extent -113.15,-61.02 113.15,61.02

## WLCSP12_0P4_1P38X1P68MM_SMDP [mil] "WLCSP12_0P4_1P38X1P68MM_SMDP"
pads (12):
  round 10 smd: A1(-15.75,23.62) A2(0,23.62) A3(15.75,23.62) B1(-15.75,7.87) B2(0,7.87) B3(15.75,7.87) C1(-15.75,-7.87) C2(0,-7.87) C3(15.75,-7.87) D1(-15.75,-23.62) D2(0,-23.62) D3(15.75,-23.62)
Top Overlay:
  lines w6: -34.17,-40.07 -34.17,26.13 -20.22,40.07 34.17,40.07 34.17,-40.07 -34.17,-40.07
  text ".Designator" at -40,-90 h30
  text "A" at -65,10 h25
  text "D" at -62.93,-39.75 h25
  text "1" at -20,45 h25
  text "3" at 45,35 h25
Top Courtyard:
  dashed: -27.17,-33.07 27.17,-33.07 27.17,33.07 -27.17,33.07
Top 3D Body:
  region: -27.17,-33.07 27.17,-33.07 27.17,33.07 -27.17,33.07
Top Component Center:
  lines w1: -10,0 10,0 ; 0,-10 0,10
Mechanical 31:
  dashed: -147.17,153.07 147.17,153.07 147.17,-153.07 -147.17,-153.07
Mechanical34:
  text "A2" at -8,23.62 h10
  text "A1" at -23.75,23.62 h10
  text "A3" at 7.75,23.62 h10
  text "C2" at -8,-7.87 h10
  text "D2" at -8,-23.62 h10
  text "D1" at -23.75,-23.62 h10
  text "C1" at -23.75,-7.87 h10
  text "B1" at -23.75,7.87 h10
  text "B2" at -8,7.87 h10
  text "C3" at 7.75,-7.87 h10
  text "D3" at 7.75,-23.62 h10
  text "B3" at 7.75,7.87 h10
Mechanical35:
  text "PADS C010S_SMDP" at -196.78,-244.87 h25
  text "ALL DIMS IN MM." at -189.54,-304.05 h25
  text "WLCSP12_0P4_1P38X1P68MM_SMDP" at -343.46,148.93 h25
Top Assembly:
  circle w6: c-11.64,20.01 r6.2
  lines w6: -27.17,-33.07 27.17,-33.07 27.17,33.07 -17.32,33.07 -27.17,23.23 -27.17,-33.07
  text "A" at -60.44,19.83 h25
  text "D" at -59.52,-36.48 h25
  text "1" at -26.12,49.04 h25
  text "3" at 9.44,45.81 h25
3D body: height 150, standoff 0, extent -27.17,-33.07 27.17,33.07

## X2QFN12_0P4_1P6X1P6 [mil] "X2QFN12_0P4_1P6X1P6"
pads (12):
  rect 28x8 smd: 1(-23.84,7.87) 2(-23.84,-7.87) 7(23.84,-7.87) 8(23.84,7.87)
  rect 8x18 smd: 3(-23.62,-28.54) 4(-7.87,-28.54) 5(7.87,-28.54) 6(23.62,-28.54) 9(23.62,28.54) 10(7.87,28.54) 11(-7.87,28.54) 12(-23.62,28.54)
Top Overlay:
  lines w6: -44.84,-44.54 -44.84,34.7 -35,44.54 44.84,44.54 44.84,-44.54 -44.84,-44.54
  text ".Designator" at -115,-45 h30
  text "1" at -80,5 h30
Top Courtyard:
  dashed: -37.84,-37.54 37.84,-37.54 37.84,37.54 -37.84,37.54
Top 3D Body:
  lines w1: -37.84,-37.54 37.84,-37.54 37.84,37.54 -37.84,37.54 -37.84,-37.54
Top Component Center:
  lines w1: -10,0 10,0 ; 0,-10 0,10
Mechanical 31:
  lines w1: -47.84,-47.54 47.84,-47.54 47.84,47.54 -47.84,47.54 -47.84,-47.54
Mechanical34:
  text "12" at -31.62,28.54 h10
  text "2" at -27.84,-7.87 h10
  text "1" at -27.84,7.87 h10
  text "6" at 19.62,-28.54 h10
  text "8" at 19.84,7.87 h10
  text "7" at 19.84,-7.87 h10
  text "9" at 19.62,28.54 h10
  text "11" at -15.87,28.54 h10
  text "5" at 3.87,-28.54 h10
  text "3" at -27.62,-28.54 h10
  text "4" at -11.87,-28.54 h10
  text "10" at -0.13,28.54 h10
Mechanical35:
  text "X2QFN12_0P4_1P6X1P6" at -194.4,229.23 h31
  text "ALL DIMS. IN MM" at -227.09,-298.26 h31
  text "PADS  R008-018S" at -224.63,-354.04 h31
  text "PAD 1,2,7,8 R028-008S" at -226.74,-398.79 h31
Top Assembly:
  lines w6: -32.48,-32.48 -32.48,22.06 -22.06,32.48 32.48,32.48 32.48,-32.48 -32.48,-32.48
  text "1" at -66.23,-1.87 h25